# EAGLE library part J00-0065NL (library EthernetChip)
Ethernet port device.
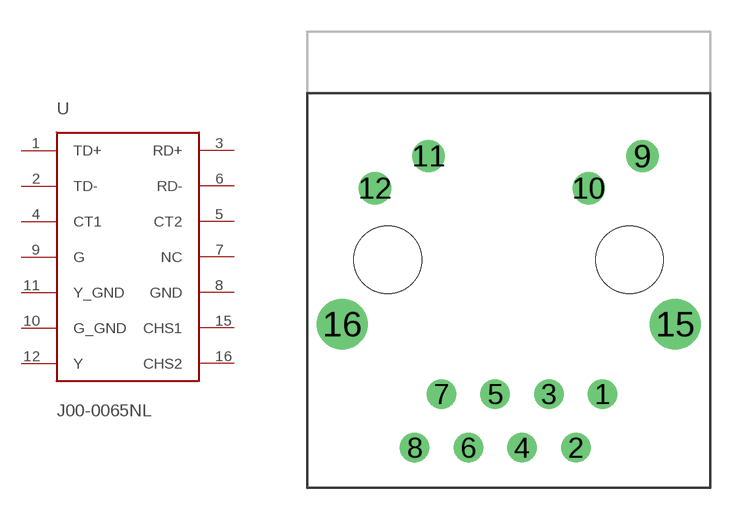
[diagram p0: symbol with the pads of J00-0065NL; footprint J00-0065NL]

Designator prefix -

## J00-0065NL  [J00-0065NL]
1  TD+
2  TD-
3  RD+
4  CT1
5  CT2
6  RD-
7  NC
8  GND
9  G
10  G_GND
11  Y_GND
12  Y
15  CHS1
16  CHS2

## Footprint J00-0065NL (pad centres in mm)
drill 0.889 pad 1.016: 1 1.27,2.54; 2 0,0; 3 -1.27,2.54; 4 -2.54,0; 5 -3.81,2.54; 6 -5.08,0; 7 -6.35,2.54; 8 -7.62,0
drill 1.016 pad 1.143: 9 3.15,13.792; 10 0.61,12.268; 11 -6.96,13.792; 12 -9.5,12.268
drill 1.6 pad 1.727: 15 4.699,5.842; 16 -11.049,5.842
hole 3.2 at -8.89,8.89
hole 3.2 at 2.54,8.89